# Altium integrated library MTSW-101-X-X-D-X.IntLib: 1 symbol
Pins are listed as number, name and electrical type; pins without a type are passive.

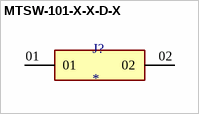
[diagram p0: symbol MTSW-101-X-X-D-X]

## MTSW-101-X-X-D-X
designator J?
Variable Height PCB Header Strips, 0.100 pitch; MF: SAMTEC; MP: MTSW-101-09-L-D-210; SnapEDA_Link: https://www.snapeda.com/parts/MTSW-101-09-L-D-210/Samtec/view-part/?ref=snap; Package: None; Value: *; Check_prices: https://www.snapeda.com/parts/MTSW-101-09-L-D-210/Samtec/view-part/?ref=eda
footprint SAMTEC_MTSW-101-X-X-D-X
pins: 01, 02